# Altium integrated library Resistors.IntLib: 4954 symbols (part 12 of 32)
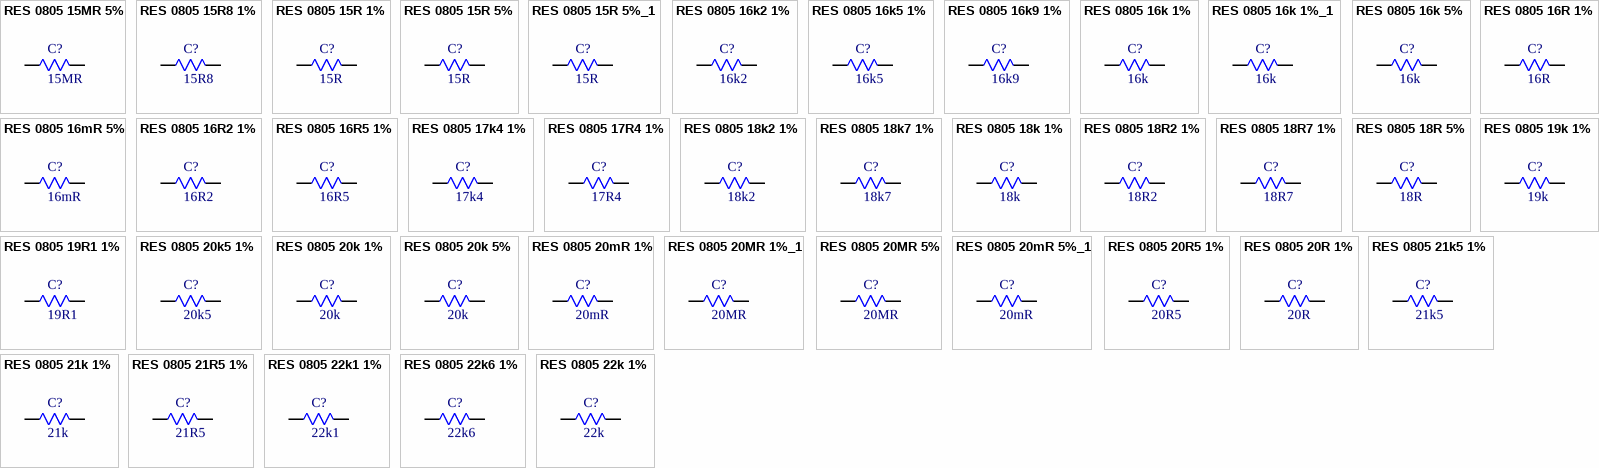
[diagram p134: symbols RES 0805 15MR 5% to RES 0805 22k 1%]

## RES 0805 15R8 1%
designator C?, comment 15R8
15.8R 1% 125mW 0805 Thick Film Resistor; Manufacturer: FOJAN; Manufacturer Part Number: FRC0805F15R8TS; Voltage Rating: 150V; Supplier: LCSC; Supplier Part Number: C3013212; Resistance: 15R8; Tolerance: 1%; Power: 125mW
footprint RES SMD 0805
pins: 1, 2

## RES 0805 15R 1%
designator C?, comment 15R
15R 1% 125mW 0805 Thick Film Resistor; Manufacturer: FOJAN; Manufacturer Part Number: FRC0805F15R0TS; Voltage Rating: 150V; Supplier: LCSC; Supplier Part Number: C2907229; Resistance: 15R; Tolerance: 1%; Power: 125mW
footprint RES SMD 0805
pins: 1, 2

## RES 0805 15R 5%
designator C?, comment 15R
15R 5% 125mW 0805 Thick Film Resistor; Manufacturer: FOJAN; Manufacturer Part Number: FRC0805J150TS; Voltage Rating: 150V; Supplier: LCSC; Supplier Part Number: C2930246; Resistance: 15R; Tolerance: 5%; Power: 125mW
footprint RES SMD 0805
pins: 1, 2

## RES 0805 15R 5%_1
designator C?, comment 15R
15R 5% 125mW 0805 Thick Film Resistor; Manufacturer: FOJAN; Manufacturer Part Number: FRD0805J150 TS; Voltage Rating: 150V; Supplier: LCSC; Supplier Part Number: C2934144; Resistance: 15R; Tolerance: 5%; Power: 125mW
footprint RES SMD 0805
pins: 1, 2

## RES 0805 16k2 1%
designator C?, comment 16k2
16.2kR 1% 125mW 0805 Thick Film Resistor; Manufacturer: FOJAN; Manufacturer Part Number: FRC0805F1622TS; Voltage Rating: 150V; Supplier: LCSC; Supplier Part Number: C2933332; Resistance: 16k2; Tolerance: 1%; Power: 125mW
footprint RES SMD 0805
pins: 1, 2

## RES 0805 16k5 1%
designator C?, comment 16k5
16.5kR 1% 125mW 0805 Thick Film Resistor; Manufacturer: FOJAN; Manufacturer Part Number: FRC0805F1652TS; Voltage Rating: 150V; Supplier: LCSC; Supplier Part Number: C2930171; Resistance: 16k5; Tolerance: 1%; Power: 125mW
footprint RES SMD 0805
pins: 1, 2

## RES 0805 16k9 1%
designator C?, comment 16k9
16.9kR 1% 125mW 0805 Thick Film Resistor; Manufacturer: FOJAN; Manufacturer Part Number: FRC0805F1692TS; Voltage Rating: 150V; Supplier: LCSC; Supplier Part Number: C2933336; Resistance: 16k9; Tolerance: 1%; Power: 125mW
footprint RES SMD 0805
pins: 1, 2

## RES 0805 16k 1%
designator C?, comment 16k
16kR 1% 125mW 0805 Thick Film Resistor; Manufacturer: FOJAN; Manufacturer Part Number: FRC0805F1602TS; Voltage Rating: 150V; Supplier: LCSC; Supplier Part Number: C2933329; Resistance: 16k; Tolerance: 1%; Power: 125mW
footprint RES SMD 0805
pins: 1, 2

## RES 0805 16k 1%_1
designator C?, comment 16k
125mW 16kR 150V Thick Film Resistor 100ppm/â„ƒ 1% 0805 Chip Resistor - Surface Mount RoHS; Manufacturer: FOJAN; Manufacturer Part Number: FRQ0805F1602TS; Supplier: LCSC; Supplier Part Number: C49196694; Resistance: 16k; Tolerance: 1%; Voltage Rating: 150V; Power: 125mW
footprint RES SMD 0805
pins: 1, 2

## RES 0805 16k 5%
designator C?, comment 16k
16kR 5% 125mW 0805 Thick Film Resistor; Manufacturer: FOJAN; Manufacturer Part Number: FRC0805J163TS; Voltage Rating: 150V; Supplier: LCSC; Supplier Part Number: C2930248; Resistance: 16k; Tolerance: 5%; Power: 125mW
footprint RES SMD 0805
pins: 1, 2

## RES 0805 16mR 5%
designator C?, comment 16mR
125mW 16mR Thick Film Resistor 5% 0805 Chip Resistor - Surface Mount RoHS; Manufacturer: FOJAN; Manufacturer Part Number: FRL0805JR016TS; Supplier: LCSC; Supplier Part Number: C7467497; Resistance: 16mR; Tolerance: 5%; Power: 125mW
footprint RES SMD 0805
pins: 1, 2

## RES 0805 16R2 1%
designator C?, comment 16R2
16.2R 1% 125mW 0805 Thick Film Resistor; Manufacturer: FOJAN; Manufacturer Part Number: FRC0805F16R2TS; Voltage Rating: 150V; Supplier: LCSC; Supplier Part Number: C2974034; Resistance: 16R2; Tolerance: 1%; Power: 125mW
footprint RES SMD 0805
pins: 1, 2

## RES 0805 16R5 1%
designator C?, comment 16R5
16.5R 1% 125mW 0805 Thick Film Resistor; Manufacturer: FOJAN; Manufacturer Part Number: FRC0805F16R5TS; Voltage Rating: 150V; Supplier: LCSC; Supplier Part Number: C2933339; Resistance: 16R5; Tolerance: 1%; Power: 125mW
footprint RES SMD 0805
pins: 1, 2

## RES 0805 16R 1%
designator C?, comment 16R
16R 1% 125mW 0805 Thick Film Resistor; Manufacturer: FOJAN; Manufacturer Part Number: FRC0805F16R0TS; Voltage Rating: 150V; Supplier: LCSC; Supplier Part Number: C2930172; Resistance: 16R; Tolerance: 1%; Power: 125mW
footprint RES SMD 0805
pins: 1, 2

## RES 0805 17k4 1%
designator C?, comment 17k4
17.4kR 1% 125mW 0805 Thick Film Resistor; Manufacturer: FOJAN; Manufacturer Part Number: FRC0805F1742TS; Voltage Rating: 150V; Supplier: LCSC; Supplier Part Number: C2930173; Resistance: 17k4; Tolerance: 1%; Power: 125mW
footprint RES SMD 0805
pins: 1, 2

## RES 0805 17R4 1%
designator C?, comment 17R4
17.4R 1% 125mW 0805 Thick Film Resistor; Manufacturer: FOJAN; Manufacturer Part Number: FRC0805F17R4TS; Voltage Rating: 150V; Supplier: LCSC; Supplier Part Number: C2933343; Resistance: 17R4; Tolerance: 1%; Power: 125mW
footprint RES SMD 0805
pins: 1, 2

## RES 0805 18k2 1%
designator C?, comment 18k2
18.2kR 1% 125mW 0805 Thick Film Resistor; Manufacturer: FOJAN; Manufacturer Part Number: FRC0805F1822TS; Voltage Rating: 150V; Supplier: LCSC; Supplier Part Number: C2933346; Resistance: 18k2; Tolerance: 1%; Power: 125mW
footprint RES SMD 0805
pins: 1, 2

## RES 0805 18k7 1%
designator C?, comment 18k7
18.7kR 1% 125mW 0805 Thick Film Resistor; Manufacturer: FOJAN; Manufacturer Part Number: FRC0805F1872TS; Voltage Rating: 150V; Supplier: LCSC; Supplier Part Number: C2933348; Resistance: 18k7; Tolerance: 1%; Power: 125mW
footprint RES SMD 0805
pins: 1, 2

## RES 0805 18k 1%
designator C?, comment 18k
18kR 1% 125mW 0805 Thick Film Resistor; Manufacturer: FOJAN; Manufacturer Part Number: FRC0805F1802TS; Voltage Rating: 150V; Supplier: LCSC; Supplier Part Number: C2907231; Resistance: 18k; Tolerance: 1%; Power: 125mW
footprint RES SMD 0805
pins: 1, 2

## RES 0805 18R2 1%
designator C?, comment 18R2
18.2R 1% 125mW 0805 Thick Film Resistor; Manufacturer: FOJAN; Manufacturer Part Number: FRC0805F18R2TS; Voltage Rating: 150V; Supplier: LCSC; Supplier Part Number: C2960806; Resistance: 18R2; Tolerance: 1%; Power: 125mW
footprint RES SMD 0805
pins: 1, 2

## RES 0805 18R7 1%
designator C?, comment 18R7
18.7R 1% 125mW 0805 Thick Film Resistor; Manufacturer: FOJAN; Manufacturer Part Number: FRC0805F18R7TS; Voltage Rating: 150V; Supplier: LCSC; Supplier Part Number: C2933349; Resistance: 18R7; Tolerance: 1%; Power: 125mW
footprint RES SMD 0805
pins: 1, 2

## RES 0805 18R 5%
designator C?, comment 18R
18R 5% 125mW 0805 Thick Film Resistor; Manufacturer: FOJAN; Manufacturer Part Number: FRC0805J180TS; Voltage Rating: 150V; Supplier: LCSC; Supplier Part Number: C2930252; Resistance: 18R; Tolerance: 5%; Power: 125mW
footprint RES SMD 0805
pins: 1, 2

## RES 0805 19k 1%
designator C?, comment 19k
19kR 1% 125mW 0805 Thick Film Resistor; Manufacturer: FOJAN; Manufacturer Part Number: FRC0805F1902TS; Voltage Rating: 150V; Supplier: LCSC; Supplier Part Number: C2930177; Resistance: 19k; Tolerance: 1%; Power: 125mW
footprint RES SMD 0805
pins: 1, 2

## RES 0805 19R1 1%
designator C?, comment 19R1
19.1R 1% 125mW 0805 Thick Film Resistor; Manufacturer: FOJAN; Manufacturer Part Number: FRC0805F19R1TS; Voltage Rating: 150V; Supplier: LCSC; Supplier Part Number: C2933353; Resistance: 19R1; Tolerance: 1%; Power: 125mW
footprint RES SMD 0805
pins: 1, 2

## RES 0805 20k5 1%
designator C?, comment 20k5
20.5kR 1% 125mW 0805 Thick Film Resistor; Manufacturer: FOJAN; Manufacturer Part Number: FRC0805F2052TS; Voltage Rating: 150V; Supplier: LCSC; Supplier Part Number: C2933365; Resistance: 20k5; Tolerance: 1%; Power: 125mW
footprint RES SMD 0805
pins: 1, 2

## RES 0805 20k 1%
designator C?, comment 20k
20kR 1% 125mW 0805 Thick Film Resistor; Manufacturer: FOJAN; Manufacturer Part Number: FRC0805F2002TS; Voltage Rating: 150V; Supplier: LCSC; Supplier Part Number: C2907240; Resistance: 20k; Tolerance: 1%; Power: 125mW
footprint RES SMD 0805
pins: 1, 2

## RES 0805 20k 5%
designator C?, comment 20k
20kR 5% 125mW 0805 Thick Film Resistor; Manufacturer: FOJAN; Manufacturer Part Number: FRC0805J203 TS; Voltage Rating: 150V; Supplier: LCSC; Supplier Part Number: C2907307; Resistance: 20k; Tolerance: 5%; Power: 125mW
footprint RES SMD 0805
pins: 1, 2

## RES 0805 20mR 1%
designator C?, comment 20mR
125mW 20mR Thick Film Resistor 1200ppm/â„ƒ 1% 0805 Chip Resistor - Surface Mount RoHS; Manufacturer: FOJAN; Manufacturer Part Number: FRL0805FR020TS; Supplier: LCSC; Supplier Part Number: C7467301; Resistance: 20mR; Tolerance: 1%; Power: 125mW
footprint RES SMD 0805
pins: 1, 2

## RES 0805 20MR 1%_1
designator C?, comment 20MR
20MR 1% 125mW 0805 Thick Film Resistor; Manufacturer: FOJAN; Manufacturer Part Number: FRG0805F2005TS; Voltage Rating: 150V; Supplier: LCSC; Supplier Part Number: C3013337; Resistance: 20MR; Tolerance: 1%; Power: 125mW
footprint RES SMD 0805
pins: 1, 2

## RES 0805 20MR 5%
designator C?, comment 20MR
20MR 5% 125mW 0805 Thick Film Resistor; Manufacturer: FOJAN; Manufacturer Part Number: FRG0805J206TS; Voltage Rating: 150V; Supplier: LCSC; Supplier Part Number: C3000547; Resistance: 20MR; Tolerance: 5%; Power: 125mW
footprint RES SMD 0805
pins: 1, 2

## RES 0805 20mR 5%_1
designator C?, comment 20mR
125mW 20mR Thick Film Resistor 1200ppm/â„ƒ 5% 0805 Chip Resistor - Surface Mount RoHS; Manufacturer: FOJAN; Manufacturer Part Number: FRL0805JR020TS; Supplier: LCSC; Supplier Part Number: C7467520; Resistance: 20mR; Tolerance: 5%; Power: 125mW
footprint RES SMD 0805
pins: 1, 2

## RES 0805 20R5 1%
designator C?, comment 20R5
20.5R 1% 125mW 0805 Thick Film Resistor; Manufacturer: FOJAN; Manufacturer Part Number: FRC0805F20R5TS; Voltage Rating: 150V; Supplier: LCSC; Supplier Part Number: C3013215; Resistance: 20R5; Tolerance: 1%; Power: 125mW
footprint RES SMD 0805
pins: 1, 2

## RES 0805 20R 1%
designator C?, comment 20R
20R 1% 125mW 0805 Thick Film Resistor; Manufacturer: FOJAN; Manufacturer Part Number: FRC0805F20R0TS; Voltage Rating: 150V; Supplier: LCSC; Supplier Part Number: C2907241; Resistance: 20R; Tolerance: 1%; Power: 125mW
footprint RES SMD 0805
pins: 1, 2

## RES 0805 21k5 1%
designator C?, comment 21k5
21.5kR 1% 125mW 0805 Thick Film Resistor; Manufacturer: FOJAN; Manufacturer Part Number: FRC0805F2152TS; Voltage Rating: 150V; Supplier: LCSC; Supplier Part Number: C2930181; Resistance: 21k5; Tolerance: 1%; Power: 125mW
footprint RES SMD 0805
pins: 1, 2

## RES 0805 21k 1%
designator C?, comment 21k
21kR 1% 125mW 0805 Thick Film Resistor; Manufacturer: FOJAN; Manufacturer Part Number: FRC0805F2102TS; Voltage Rating: 150V; Supplier: LCSC; Supplier Part Number: C2933366; Resistance: 21k; Tolerance: 1%; Power: 125mW
footprint RES SMD 0805
pins: 1, 2

## RES 0805 21R5 1%
designator C?, comment 21R5
21.5R 1% 125mW 0805 Thick Film Resistor; Manufacturer: FOJAN; Manufacturer Part Number: FRC0805F21R5TS; Voltage Rating: 150V; Supplier: LCSC; Supplier Part Number: C5713299; Resistance: 21R5; Tolerance: 1%; Power: 125mW
footprint RES SMD 0805
pins: 1, 2

## RES 0805 22k1 1%
designator C?, comment 22k1
22.1kR 1% 125mW 0805 Thick Film Resistor; Manufacturer: FOJAN; Manufacturer Part Number: FRC0805F2212TS; Voltage Rating: 150V; Supplier: LCSC; Supplier Part Number: C2930182; Resistance: 22k1; Tolerance: 1%; Power: 125mW
footprint RES SMD 0805
pins: 1, 2

## RES 0805 22k6 1%
designator C?, comment 22k6
22.6kR 1% 125mW 0805 Thick Film Resistor; Manufacturer: FOJAN; Manufacturer Part Number: FRC0805F2262TS; Voltage Rating: 150V; Supplier: LCSC; Supplier Part Number: C2933371; Resistance: 22k6; Tolerance: 1%; Power: 125mW
footprint RES SMD 0805
pins: 1, 2

## RES 0805 22k 1%
designator C?, comment 22k
22kR 1% 125mW 0805 Thick Film Resistor; Manufacturer: FOJAN; Manufacturer Part Number: FRC0805F2202TS; Voltage Rating: 150V; Supplier: LCSC; Supplier Part Number: C2907243; Resistance: 22k; Tolerance: 1%; Power: 125mW
footprint RES SMD 0805
pins: 1, 2

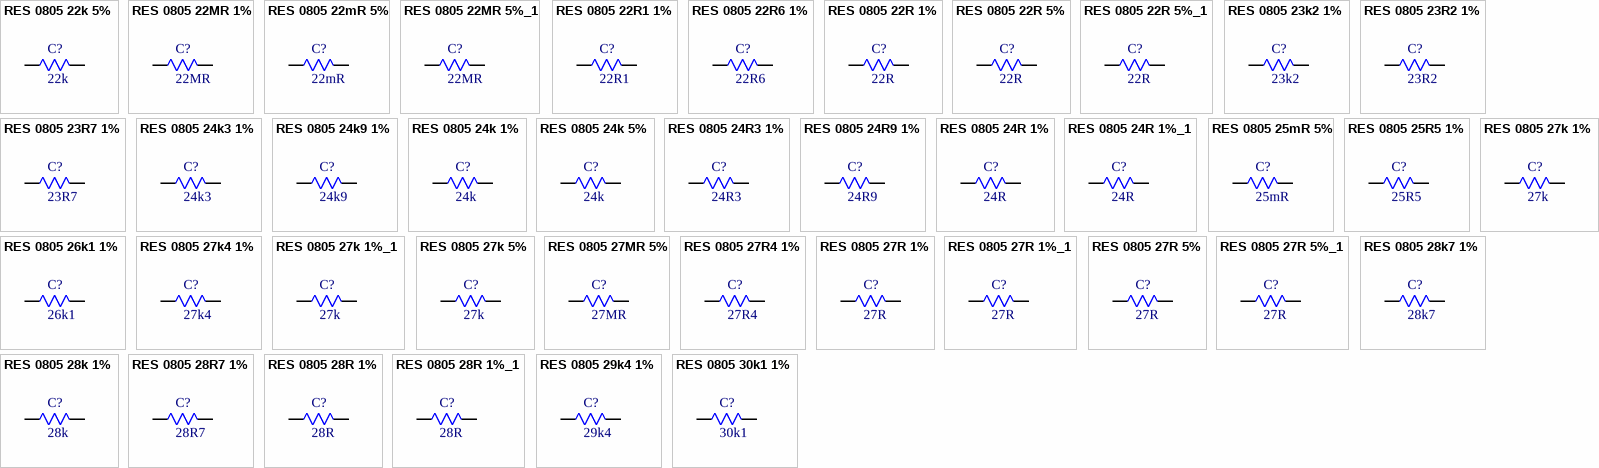
[diagram p45: symbols RES 0805 22k 5% to RES 0805 30k1 1%]

## RES 0805 22k 5%
designator C?, comment 22k
22kR 5% 125mW 0805 Thick Film Resistor; Manufacturer: FOJAN; Manufacturer Part Number: FRC0805J223 TS; Voltage Rating: 150V; Supplier: LCSC; Supplier Part Number: C2907309; Resistance: 22k; Tolerance: 5%; Power: 125mW
footprint RES SMD 0805
pins: 1, 2

## RES 0805 22MR 1%
designator C?, comment 22MR
22MR 1% 125mW 0805 Thick Film Resistor; Manufacturer: FOJAN; Manufacturer Part Number: FRG0805F2205TS; Voltage Rating: 150V; Supplier: LCSC; Supplier Part Number: C3013338; Resistance: 22MR; Tolerance: 1%; Power: 125mW
footprint RES SMD 0805
pins: 1, 2

## RES 0805 22mR 5%
designator C?, comment 22mR
125mW 22mR Thick Film Resistor 1200ppm/â„ƒ 5% 0805 Chip Resistor - Surface Mount RoHS; Manufacturer: FOJAN; Manufacturer Part Number: FRL0805JR022TS; Supplier: LCSC; Supplier Part Number: C7467546; Resistance: 22mR; Tolerance: 5%; Power: 125mW
footprint RES SMD 0805
pins: 1, 2

## RES 0805 22MR 5%_1
designator C?, comment 22MR
22MR 5% 125mW 0805 Thick Film Resistor; Manufacturer: FOJAN; Manufacturer Part Number: FRG0805J226TS; Voltage Rating: 150V; Supplier: LCSC; Supplier Part Number: C3000557; Resistance: 22MR; Tolerance: 5%; Power: 125mW
footprint RES SMD 0805
pins: 1, 2

## RES 0805 22R1 1%
designator C?, comment 22R1
22.1R 1% 125mW 0805 Thick Film Resistor; Manufacturer: FOJAN; Manufacturer Part Number: FRC0805F22R1TS; Voltage Rating: 150V; Supplier: LCSC; Supplier Part Number: C2933372; Resistance: 22R1; Tolerance: 1%; Power: 125mW
footprint RES SMD 0805
pins: 1, 2

## RES 0805 22R6 1%
designator C?, comment 22R6
22.6R 1% 125mW 0805 Thick Film Resistor; Manufacturer: FOJAN; Manufacturer Part Number: FRC0805F22R6TS; Voltage Rating: 150V; Supplier: LCSC; Supplier Part Number: C2960737; Resistance: 22R6; Tolerance: 1%; Power: 125mW
footprint RES SMD 0805
pins: 1, 2

## RES 0805 22R 1%
designator C?, comment 22R
22R 1% 125mW 0805 Thick Film Resistor; Manufacturer: FOJAN; Manufacturer Part Number: FRC0805F22R0TS; Voltage Rating: 150V; Supplier: LCSC; Supplier Part Number: C2907244; Resistance: 22R; Tolerance: 1%; Power: 125mW
footprint RES SMD 0805
pins: 1, 2

## RES 0805 22R 5%
designator C?, comment 22R
22R 5% 125mW 0805 Thick Film Resistor; Manufacturer: FOJAN; Manufacturer Part Number: FRC0805J220 TS; Voltage Rating: 150V; Supplier: LCSC; Supplier Part Number: C2907310; Resistance: 22R; Tolerance: 5%; Power: 125mW
footprint RES SMD 0805
pins: 1, 2

## RES 0805 22R 5%_1
designator C?, comment 22R
125mW 22R 150V Thick Film Resistor 100ppm/â„ƒ 5% 0805 Chip Resistor - Surface Mount RoHS; Manufacturer: FOJAN; Manufacturer Part Number: FRQ0805J220 TS; Supplier: LCSC; Supplier Part Number: C18222261; Resistance: 22R; Tolerance: 5%; Voltage Rating: 150V; Power: 125mW
footprint RES SMD 0805
pins: 1, 2

## RES 0805 23k2 1%
designator C?, comment 23k2
23.2kR 1% 125mW 0805 Thick Film Resistor; Manufacturer: FOJAN; Manufacturer Part Number: FRC0805F2322TS; Voltage Rating: 150V; Supplier: LCSC; Supplier Part Number: C2930419; Resistance: 23k2; Tolerance: 1%; Power: 125mW
footprint RES SMD 0805
pins: 1, 2

## RES 0805 23R2 1%
designator C?, comment 23R2
23.2R 1% 125mW 0805 Thick Film Resistor; Manufacturer: FOJAN; Manufacturer Part Number: FRC0805F23R2TS; Voltage Rating: 150V; Supplier: LCSC; Supplier Part Number: C2930183; Resistance: 23R2; Tolerance: 1%; Power: 125mW
footprint RES SMD 0805
pins: 1, 2

## RES 0805 23R7 1%
designator C?, comment 23R7
23.7R 1% 125mW 0805 Thick Film Resistor; Manufacturer: FOJAN; Manufacturer Part Number: FRC0805F23R7TS; Voltage Rating: 150V; Supplier: LCSC; Supplier Part Number: C2933375; Resistance: 23R7; Tolerance: 1%; Power: 125mW
footprint RES SMD 0805
pins: 1, 2

## RES 0805 24k3 1%
designator C?, comment 24k3
24.3kR 1% 125mW 0805 Thick Film Resistor; Manufacturer: FOJAN; Manufacturer Part Number: FRC0805F2432TS; Voltage Rating: 150V; Supplier: LCSC; Supplier Part Number: C2933378; Resistance: 24k3; Tolerance: 1%; Power: 125mW
footprint RES SMD 0805
pins: 1, 2

## RES 0805 24k9 1%
designator C?, comment 24k9
24.9kR 1% 125mW 0805 Thick Film Resistor; Manufacturer: FOJAN; Manufacturer Part Number: FRC0805F2492TS; Voltage Rating: 150V; Supplier: LCSC; Supplier Part Number: C2930185; Resistance: 24k9; Tolerance: 1%; Power: 125mW
footprint RES SMD 0805
pins: 1, 2

## RES 0805 24k 1%
designator C?, comment 24k
24kR 1% 125mW 0805 Thick Film Resistor; Manufacturer: FOJAN; Manufacturer Part Number: FRC0805F2402TS; Voltage Rating: 150V; Supplier: LCSC; Supplier Part Number: C2907246; Resistance: 24k; Tolerance: 1%; Power: 125mW
footprint RES SMD 0805
pins: 1, 2

## RES 0805 24k 5%
designator C?, comment 24k
24kR 5% 125mW 0805 Thick Film Resistor; Manufacturer: FOJAN; Manufacturer Part Number: FRC0805J243 TS; Voltage Rating: 150V; Supplier: LCSC; Supplier Part Number: C2907311; Resistance: 24k; Tolerance: 5%; Power: 125mW
footprint RES SMD 0805
pins: 1, 2

## RES 0805 24R3 1%
designator C?, comment 24R3
24.3R 1% 125mW 0805 Thick Film Resistor; Manufacturer: FOJAN; Manufacturer Part Number: FRC0805F24R3TS; Voltage Rating: 150V; Supplier: LCSC; Supplier Part Number: C2960738; Resistance: 24R3; Tolerance: 1%; Power: 125mW
footprint RES SMD 0805
pins: 1, 2

## RES 0805 24R9 1%
designator C?, comment 24R9
24.9R 1% 125mW 0805 Thick Film Resistor; Manufacturer: FOJAN; Manufacturer Part Number: FRC0805F24R9TS; Voltage Rating: 150V; Supplier: LCSC; Supplier Part Number: C2933381; Resistance: 24R9; Tolerance: 1%; Power: 125mW
footprint RES SMD 0805
pins: 1, 2

## RES 0805 24R 1%
designator C?, comment 24R
24R 1% 125mW 0805 Thick Film Resistor; Manufacturer: FOJAN; Manufacturer Part Number: FRC0805F24R0TS; Voltage Rating: 150V; Supplier: LCSC; Supplier Part Number: C2933380; Resistance: 24R; Tolerance: 1%; Power: 125mW
footprint RES SMD 0805
pins: 1, 2

## RES 0805 24R 1%_1
designator C?, comment 24R
125mW 24R 150V Thick Film Resistor 1% 100ppm/â„ƒ 0805 Chip Resistor - Surface Mount RoHS; Manufacturer: FOJAN; Manufacturer Part Number: FRQ0805F24R0TS; Supplier: LCSC; Supplier Part Number: C7468666; Resistance: 24R; Tolerance: 1%; Voltage Rating: 150V; Power: 125mW
footprint RES SMD 0805
pins: 1, 2

## RES 0805 25mR 5%
designator C?, comment 25mR
125mW 25mR Thick Film Resistor 1200ppm/â„ƒ 5% 0805 Chip Resistor - Surface Mount RoHS; Manufacturer: FOJAN; Manufacturer Part Number: FRL0805JR025TS; Supplier: LCSC; Supplier Part Number: C7467511; Resistance: 25mR; Tolerance: 5%; Power: 125mW
footprint RES SMD 0805
pins: 1, 2

## RES 0805 25R5 1%
designator C?, comment 25R5
25.5R 1% 125mW 0805 Thick Film Resistor; Manufacturer: FOJAN; Manufacturer Part Number: FRC0805F25R5TS; Voltage Rating: 150V; Supplier: LCSC; Supplier Part Number: C2933385; Resistance: 25R5; Tolerance: 1%; Power: 125mW
footprint RES SMD 0805
pins: 1, 2

## RES 0805 26k1 1%
designator C?, comment 26k1
26.1kR 1% 125mW 0805 Thick Film Resistor; Manufacturer: FOJAN; Manufacturer Part Number: FRC0805F2612TS; Voltage Rating: 150V; Supplier: LCSC; Supplier Part Number: C2933386; Resistance: 26k1; Tolerance: 1%; Power: 125mW
footprint RES SMD 0805
pins: 1, 2

## RES 0805 27k4 1%
designator C?, comment 27k4
27.4kR 1% 125mW 0805 Thick Film Resistor; Manufacturer: FOJAN; Manufacturer Part Number: FRC0805F2742TS; Voltage Rating: 150V; Supplier: LCSC; Supplier Part Number: C2930188; Resistance: 27k4; Tolerance: 1%; Power: 125mW
footprint RES SMD 0805
pins: 1, 2

## RES 0805 27k 1%
designator C?, comment 27k
27kR 1% 125mW 0805 Thick Film Resistor; Manufacturer: FOJAN; Manufacturer Part Number: FRC0805F2702TS; Voltage Rating: 150V; Supplier: LCSC; Supplier Part Number: C2907247; Resistance: 27k; Tolerance: 1%; Power: 125mW
footprint RES SMD 0805
pins: 1, 2

## RES 0805 27k 1%_1
designator C?, comment 27k
125mW 27kR Thick Film Resistor 1% 100ppm/â„ƒ 0805 Chip Resistor - Surface Mount RoHS; Manufacturer: FOJAN; Manufacturer Part Number: FRQ0805F2702TS; Supplier: LCSC; Supplier Part Number: C7468569; Resistance: 27k; Tolerance: 1%; Power: 125mW
footprint RES SMD 0805
pins: 1, 2

## RES 0805 27k 5%
designator C?, comment 27k
27kR 5% 125mW 0805 Thick Film Resistor; Manufacturer: FOJAN; Manufacturer Part Number: FRC0805J273TS; Voltage Rating: 150V; Supplier: LCSC; Supplier Part Number: C2930263; Resistance: 27k; Tolerance: 5%; Power: 125mW
footprint RES SMD 0805
pins: 1, 2

## RES 0805 27MR 5%
designator C?, comment 27MR
125mW 27MR Thick Film Resistor 5% 200ppm/â„ƒ 0805 Chip Resistor - Surface Mount RoHS; Manufacturer: FOJAN; Manufacturer Part Number: FRG0805J276 TS; Supplier: LCSC; Supplier Part Number: C42372202; Resistance: 27MR; Tolerance: 5%; Power: 125mW
footprint RES SMD 0805
pins: 1, 2

## RES 0805 27R4 1%
designator C?, comment 27R4
27.4R 1% 125mW 0805 Thick Film Resistor; Manufacturer: FOJAN; Manufacturer Part Number: FRC0805F27R4TS; Voltage Rating: 150V; Supplier: LCSC; Supplier Part Number: C5713302; Resistance: 27R4; Tolerance: 1%; Power: 125mW
footprint RES SMD 0805
pins: 1, 2

## RES 0805 27R 1%
designator C?, comment 27R
27R 1% 125mW 0805 Thick Film Resistor; Manufacturer: FOJAN; Manufacturer Part Number: FRC0805F27R0TS; Voltage Rating: 150V; Supplier: LCSC; Supplier Part Number: C2933393; Resistance: 27R; Tolerance: 1%; Power: 125mW
footprint RES SMD 0805
pins: 1, 2

## RES 0805 27R 1%_1
designator C?, comment 27R
125mW 27R 150V Thick Film Resistor 1% 100ppm/â„ƒ 0805 Chip Resistor - Surface Mount RoHS; Manufacturer: FOJAN; Manufacturer Part Number: FRQ0805F27R0TS; Supplier: LCSC; Supplier Part Number: C7468662; Resistance: 27R; Tolerance: 1%; Voltage Rating: 150V; Power: 125mW
footprint RES SMD 0805
pins: 1, 2

## RES 0805 27R 5%
designator C?, comment 27R
27R 5% 125mW 0805 Thick Film Resistor; Manufacturer: FOJAN; Manufacturer Part Number: FRC0805J270 TS; Voltage Rating: 150V; Supplier: LCSC; Supplier Part Number: C2907314; Resistance: 27R; Tolerance: 5%; Power: 125mW
footprint RES SMD 0805
pins: 1, 2

## RES 0805 27R 5%_1
designator C?, comment 27R
27R 5% 125mW 0805 Thick Film Resistor; Manufacturer: FOJAN; Manufacturer Part Number: FRC0805J270TSD; Voltage Rating: 150V; Supplier: LCSC; Supplier Part Number: C2930264; Resistance: 27R; Tolerance: 5%; Power: 125mW
footprint RES SMD 0805
pins: 1, 2

## RES 0805 28k7 1%
designator C?, comment 28k7
28.7kR 1% 125mW 0805 Thick Film Resistor; Manufacturer: FOJAN; Manufacturer Part Number: FRC0805F2872TS; Voltage Rating: 150V; Supplier: LCSC; Supplier Part Number: C2933395; Resistance: 28k7; Tolerance: 1%; Power: 125mW
footprint RES SMD 0805
pins: 1, 2

## RES 0805 28k 1%
designator C?, comment 28k
28kR 1% 125mW 0805 Thick Film Resistor; Manufacturer: FOJAN; Manufacturer Part Number: FRC0805F2802TS; Voltage Rating: 150V; Supplier: LCSC; Supplier Part Number: C2930191; Resistance: 28k; Tolerance: 1%; Power: 125mW
footprint RES SMD 0805
pins: 1, 2

## RES 0805 28R7 1%
designator C?, comment 28R7
28.7R 1% 125mW 0805 Thick Film Resistor; Manufacturer: FOJAN; Manufacturer Part Number: FRC0805F28R7TS; Voltage Rating: 150V; Supplier: LCSC; Supplier Part Number: C2930190; Resistance: 28R7; Tolerance: 1%; Power: 125mW
footprint RES SMD 0805
pins: 1, 2

## RES 0805 28R 1%
designator C?, comment 28R
125mW 28R 150V Thick Film Resistor 100ppm/â„ƒ 1% 0805 Chip Resistor - Surface Mount RoHS; Manufacturer: FOJAN; Manufacturer Part Number: FRQ0805F28R0TS; Supplier: LCSC; Supplier Part Number: C49010142; Resistance: 28R; Tolerance: 1%; Voltage Rating: 150V; Power: 125mW
footprint RES SMD 0805
pins: 1, 2

## RES 0805 28R 1%_1
designator C?, comment 28R
28R 1% 125mW 0805 Thick Film Resistor; Manufacturer: FOJAN; Manufacturer Part Number: FRC0805F28R0TS; Voltage Rating: 150V; Supplier: LCSC; Supplier Part Number: C2960761; Resistance: 28R; Tolerance: 1%; Power: 125mW
footprint RES SMD 0805
pins: 1, 2

## RES 0805 29k4 1%
designator C?, comment 29k4
29.4kR 1% 125mW 0805 Thick Film Resistor; Manufacturer: FOJAN; Manufacturer Part Number: FRC0805F2942TS; Voltage Rating: 150V; Supplier: LCSC; Supplier Part Number: C5121537; Resistance: 29k4; Tolerance: 1%; Power: 125mW
footprint RES SMD 0805
pins: 1, 2

## RES 0805 30k1 1%
designator C?, comment 30k1
30.1kR 1% 125mW 0805 Thick Film Resistor; Manufacturer: FOJAN; Manufacturer Part Number: FRC0805F3012TS; Voltage Rating: 150V; Supplier: LCSC; Supplier Part Number: C2933410; Resistance: 30k1; Tolerance: 1%; Power: 125mW
footprint RES SMD 0805
pins: 1, 2

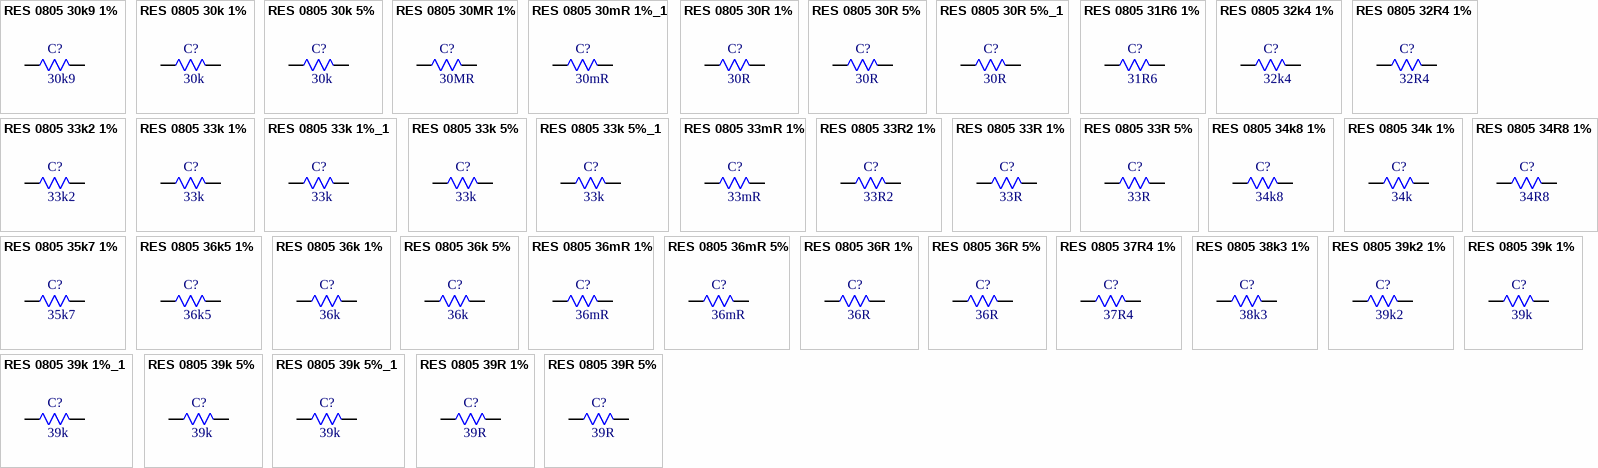
[diagram p46: symbols RES 0805 30k9 1% to RES 0805 39R 5%]

## RES 0805 30k9 1%
designator C?, comment 30k9
30.9kR 1% 125mW 0805 Thick Film Resistor; Manufacturer: FOJAN; Manufacturer Part Number: FRC0805F3092TS; Voltage Rating: 150V; Supplier: LCSC; Supplier Part Number: C2933411; Resistance: 30k9; Tolerance: 1%; Power: 125mW
footprint RES SMD 0805
pins: 1, 2

## RES 0805 30k 1%
designator C?, comment 30k
30kR 1% 125mW 0805 Thick Film Resistor; Manufacturer: FOJAN; Manufacturer Part Number: FRC0805F3002TS; Voltage Rating: 150V; Supplier: LCSC; Supplier Part Number: C2907255; Resistance: 30k; Tolerance: 1%; Power: 125mW
footprint RES SMD 0805
pins: 1, 2

## RES 0805 30k 5%
designator C?, comment 30k
30kR 5% 125mW 0805 Thick Film Resistor; Manufacturer: FOJAN; Manufacturer Part Number: FRC0805J303TS; Voltage Rating: 150V; Supplier: LCSC; Supplier Part Number: C2930272; Resistance: 30k; Tolerance: 5%; Power: 125mW
footprint RES SMD 0805
pins: 1, 2

## RES 0805 30MR 1%
designator C?, comment 30MR
30MR 1% 125mW 0805 Thick Film Resistor; Manufacturer: FOJAN; Manufacturer Part Number: FRG0805F3005TS; Voltage Rating: 150V; Supplier: LCSC; Supplier Part Number: C5126231; Resistance: 30MR; Tolerance: 1%; Power: 125mW
footprint RES SMD 0805
pins: 1, 2

## RES 0805 30mR 1%_1
designator C?, comment 30mR
30mR 125mW Thick Film Resistor 1200ppm/â„ƒ 1% 0805 Chip Resistor - Surface Mount RoHS; Manufacturer: FOJAN; Manufacturer Part Number: FRL0805FR030TS; Supplier: LCSC; Supplier Part Number: C7467397; Resistance: 30mR; Tolerance: 1%; Power: 125mW
footprint RES SMD 0805
pins: 1, 2

## RES 0805 30R 1%
designator C?, comment 30R
30R 1% 125mW 0805 Thick Film Resistor; Manufacturer: FOJAN; Manufacturer Part Number: FRC0805F30R0TS; Voltage Rating: 150V; Supplier: LCSC; Supplier Part Number: C2907256; Resistance: 30R; Tolerance: 1%; Power: 125mW
footprint RES SMD 0805
pins: 1, 2

## RES 0805 30R 5%
designator C?, comment 30R
30R 5% 125mW 0805 Thick Film Resistor; Manufacturer: FOJAN; Manufacturer Part Number: FRC0805J300 TS; Voltage Rating: 150V; Supplier: LCSC; Supplier Part Number: C2907319; Resistance: 30R; Tolerance: 5%; Power: 125mW
footprint RES SMD 0805
pins: 1, 2

## RES 0805 30R 5%_1
designator C?, comment 30R
30R 5% 125mW 0805 Thick Film Resistor; Manufacturer: FOJAN; Manufacturer Part Number: FRD0805J300 TS; Voltage Rating: 150V; Supplier: LCSC; Supplier Part Number: C2934161; Resistance: 30R; Tolerance: 5%; Power: 125mW
footprint RES SMD 0805
pins: 1, 2

## RES 0805 31R6 1%
designator C?, comment 31R6
31.6R 1% 125mW 0805 Thick Film Resistor; Manufacturer: FOJAN; Manufacturer Part Number: FRC0805F31R6TS; Voltage Rating: 150V; Supplier: LCSC; Supplier Part Number: C2960874; Resistance: 31R6; Tolerance: 1%; Power: 125mW
footprint RES SMD 0805
pins: 1, 2

## RES 0805 32k4 1%
designator C?, comment 32k4
32.4kR 1% 125mW 0805 Thick Film Resistor; Manufacturer: FOJAN; Manufacturer Part Number: FRC0805F3242TS; Voltage Rating: 150V; Supplier: LCSC; Supplier Part Number: C2930193; Resistance: 32k4; Tolerance: 1%; Power: 125mW
footprint RES SMD 0805
pins: 1, 2

## RES 0805 32R4 1%
designator C?, comment 32R4
32.4R 1% 125mW 0805 Thick Film Resistor; Manufacturer: FOJAN; Manufacturer Part Number: FRC0805F32R4TS; Voltage Rating: 150V; Supplier: LCSC; Supplier Part Number: C2960802; Resistance: 32R4; Tolerance: 1%; Power: 125mW
footprint RES SMD 0805
pins: 1, 2

## RES 0805 33k2 1%
designator C?, comment 33k2
33.2kR 1% 125mW 0805 Thick Film Resistor; Manufacturer: FOJAN; Manufacturer Part Number: FRC0805F3322TS; Voltage Rating: 150V; Supplier: LCSC; Supplier Part Number: C2933418; Resistance: 33k2; Tolerance: 1%; Power: 125mW
footprint RES SMD 0805
pins: 1, 2

## RES 0805 33k 1%
designator C?, comment 33k
33kR 1% 125mW 0805 Thick Film Resistor; Manufacturer: FOJAN; Manufacturer Part Number: FRC0805F3302TS; Voltage Rating: 150V; Supplier: LCSC; Supplier Part Number: C2933415; Resistance: 33k; Tolerance: 1%; Power: 125mW
footprint RES SMD 0805
pins: 1, 2

## RES 0805 33k 1%_1
designator C?, comment 33k
125mW 33kR 150V Thick Film Resistor 100ppm/â„ƒ 1% 0805 Chip Resistor - Surface Mount RoHS; Manufacturer: FOJAN; Manufacturer Part Number: FRR0805F3302TS; Supplier: LCSC; Supplier Part Number: C49196823; Resistance: 33k; Tolerance: 1%; Voltage Rating: 150V; Power: 125mW
footprint RES SMD 0805
pins: 1, 2

## RES 0805 33k 5%
designator C?, comment 33k
33kR 5% 125mW 0805 Thick Film Resistor; Manufacturer: FOJAN; Manufacturer Part Number: FRC0805J333TS; Voltage Rating: 150V; Supplier: LCSC; Supplier Part Number: C2930276; Resistance: 33k; Tolerance: 5%; Power: 125mW
footprint RES SMD 0805
pins: 1, 2

## RES 0805 33k 5%_1
designator C?, comment 33k
33kR 5% 125mW 0805 Thick Film Resistor AEC-Q200; Manufacturer: FOJAN; Manufacturer Part Number: FRQ0805J333 TS; Voltage Rating: 150V; Supplier: LCSC; Supplier Part Number: C5713453; Resistance: 33k; Tolerance: 5%; Power: 125mW
footprint RES SMD 0805
pins: 1, 2

## RES 0805 33mR 1%
designator C?, comment 33mR
125mW 33mR Thick Film Resistor 1200ppm/â„ƒ 1% 0805 Chip Resistor - Surface Mount RoHS; Manufacturer: FOJAN; Manufacturer Part Number: FRL0805FR033TS; Supplier: LCSC; Supplier Part Number: C7467305; Resistance: 33mR; Tolerance: 1%; Power: 125mW
footprint RES SMD 0805
pins: 1, 2

## RES 0805 33R2 1%
designator C?, comment 33R2
33.2R 1% 125mW 0805 Thick Film Resistor; Manufacturer: FOJAN; Manufacturer Part Number: FRC0805F33R2TS; Voltage Rating: 150V; Supplier: LCSC; Supplier Part Number: C2999473; Resistance: 33R2; Tolerance: 1%; Power: 125mW
footprint RES SMD 0805
pins: 1, 2

## RES 0805 33R 1%
designator C?, comment 33R
33R 1% 125mW 0805 Thick Film Resistor; Manufacturer: FOJAN; Manufacturer Part Number: FRC0805F33R0TS; Voltage Rating: 150V; Supplier: LCSC; Supplier Part Number: C2907258; Resistance: 33R; Tolerance: 1%; Power: 125mW
footprint RES SMD 0805
pins: 1, 2

## RES 0805 33R 5%
designator C?, comment 33R
33R 5% 125mW 0805 Thick Film Resistor; Manufacturer: FOJAN; Manufacturer Part Number: FRC0805J330 TS; Voltage Rating: 150V; Supplier: LCSC; Supplier Part Number: C2907322; Resistance: 33R; Tolerance: 5%; Power: 125mW
footprint RES SMD 0805
pins: 1, 2

## RES 0805 34k8 1%
designator C?, comment 34k8
34.8kR 1% 125mW 0805 Thick Film Resistor; Manufacturer: FOJAN; Manufacturer Part Number: FRC0805F3482TS; Voltage Rating: 150V; Supplier: LCSC; Supplier Part Number: C2933423; Resistance: 34k8; Tolerance: 1%; Power: 125mW
footprint RES SMD 0805
pins: 1, 2

## RES 0805 34k 1%
designator C?, comment 34k
34kR 1% 125mW 0805 Thick Film Resistor; Manufacturer: FOJAN; Manufacturer Part Number: FRC0805F3402TS; Voltage Rating: 150V; Supplier: LCSC; Supplier Part Number: C2933420; Resistance: 34k; Tolerance: 1%; Power: 125mW
footprint RES SMD 0805
pins: 1, 2

## RES 0805 34R8 1%
designator C?, comment 34R8
125mW 34.8R Thick Film Resistor 1% 100ppm/â„ƒ 0805 Chip Resistor - Surface Mount RoHS; Manufacturer: FOJAN; Manufacturer Part Number: FRC0805F34R8TS; Supplier: LCSC; Supplier Part Number: C7467327; Resistance: 34R8; Tolerance: 1%; Power: 125mW
footprint RES SMD 0805
pins: 1, 2

## RES 0805 35k7 1%
designator C?, comment 35k7
35.7kR 1% 125mW 0805 Thick Film Resistor; Manufacturer: FOJAN; Manufacturer Part Number: FRC0805F3572TS; Voltage Rating: 150V; Supplier: LCSC; Supplier Part Number: C2999474; Resistance: 35k7; Tolerance: 1%; Power: 125mW
footprint RES SMD 0805
pins: 1, 2

## RES 0805 36k5 1%
designator C?, comment 36k5
36.5kR 1% 125mW 0805 Thick Film Resistor; Manufacturer: FOJAN; Manufacturer Part Number: FRC0805F3652TS; Voltage Rating: 150V; Supplier: LCSC; Supplier Part Number: C2999585; Resistance: 36k5; Tolerance: 1%; Power: 125mW
footprint RES SMD 0805
pins: 1, 2

## RES 0805 36k 1%
designator C?, comment 36k
36kR 1% 125mW 0805 Thick Film Resistor; Manufacturer: FOJAN; Manufacturer Part Number: FRC0805F3602TS; Voltage Rating: 150V; Supplier: LCSC; Supplier Part Number: C2933426; Resistance: 36k; Tolerance: 1%; Power: 125mW
footprint RES SMD 0805
pins: 1, 2

## RES 0805 36k 5%
designator C?, comment 36k
36kR 5% 125mW 0805 Thick Film Resistor; Manufacturer: FOJAN; Manufacturer Part Number: FRC0805J363 TS; Voltage Rating: 150V; Supplier: LCSC; Supplier Part Number: C2907323; Resistance: 36k; Tolerance: 5%; Power: 125mW
footprint RES SMD 0805
pins: 1, 2

## RES 0805 36mR 1%
designator C?, comment 36mR
125mW 36mR Thick Film Resistor 1200ppm/â„ƒ 1% 0805 Chip Resistor - Surface Mount RoHS; Manufacturer: FOJAN; Manufacturer Part Number: FRL0805FR036TS; Supplier: LCSC; Supplier Part Number: C7467571; Resistance: 36mR; Tolerance: 1%; Power: 125mW
footprint RES SMD 0805
pins: 1, 2

## RES 0805 36mR 5%
designator C?, comment 36mR
125mW 36mR Thick Film Resistor 1200ppm/â„ƒ 5% 0805 Chip Resistor - Surface Mount RoHS; Manufacturer: FOJAN; Manufacturer Part Number: FRL0805JR036TS; Supplier: LCSC; Supplier Part Number: C7467607; Resistance: 36mR; Tolerance: 5%; Power: 125mW
footprint RES SMD 0805
pins: 1, 2

## RES 0805 36R 1%
designator C?, comment 36R
36R 1% 125mW 0805 Thick Film Resistor; Manufacturer: FOJAN; Manufacturer Part Number: FRC0805F36R0TS; Voltage Rating: 150V; Supplier: LCSC; Supplier Part Number: C2930159; Resistance: 36R; Tolerance: 1%; Power: 125mW
footprint RES SMD 0805
pins: 1, 2

## RES 0805 36R 5%
designator C?, comment 36R
36R 5% 125mW 0805 Thick Film Resistor; Manufacturer: FOJAN; Manufacturer Part Number: FRD0805J360 TS; Voltage Rating: 150V; Supplier: LCSC; Supplier Part Number: C5146241; Resistance: 36R; Tolerance: 5%; Power: 125mW
footprint RES SMD 0805
pins: 1, 2

## RES 0805 37R4 1%
designator C?, comment 37R4
37.4R 1% 125mW 0805 Thick Film Resistor; Manufacturer: FOJAN; Manufacturer Part Number: FRC0805F37R4TS; Voltage Rating: 150V; Supplier: LCSC; Supplier Part Number: C2930282; Resistance: 37R4; Tolerance: 1%; Power: 125mW
footprint RES SMD 0805
pins: 1, 2

## RES 0805 38k3 1%
designator C?, comment 38k3
38.3kR 1% 125mW 0805 Thick Film Resistor; Manufacturer: FOJAN; Manufacturer Part Number: FRC0805F3832TS; Voltage Rating: 150V; Supplier: LCSC; Supplier Part Number: C2933429; Resistance: 38k3; Tolerance: 1%; Power: 125mW
footprint RES SMD 0805
pins: 1, 2

## RES 0805 39k2 1%
designator C?, comment 39k2
39.2kR 1% 125mW 0805 Thick Film Resistor; Manufacturer: FOJAN; Manufacturer Part Number: FRC0805F3922TS; Voltage Rating: 150V; Supplier: LCSC; Supplier Part Number: C2999635; Resistance: 39k2; Tolerance: 1%; Power: 125mW
footprint RES SMD 0805
pins: 1, 2

## RES 0805 39k 1%
designator C?, comment 39k
39kR 1% 125mW 0805 Thick Film Resistor; Manufacturer: FOJAN; Manufacturer Part Number: FRC0805F3902TS; Voltage Rating: 150V; Supplier: LCSC; Supplier Part Number: C2907262; Resistance: 39k; Tolerance: 1%; Power: 125mW
footprint RES SMD 0805
pins: 1, 2

## RES 0805 39k 1%_1
designator C?, comment 39k
125mW 39kR Thick Film Resistor 1% 100ppm/â„ƒ 0805 Chip Resistor - Surface Mount RoHS; Manufacturer: FOJAN; Manufacturer Part Number: FRQ0805F3902TS; Supplier: LCSC; Supplier Part Number: C7468574; Resistance: 39k; Tolerance: 1%; Power: 125mW
footprint RES SMD 0805
pins: 1, 2

## RES 0805 39k 5%
designator C?, comment 39k
39kR 5% 125mW 0805 Thick Film Resistor; Manufacturer: FOJAN; Manufacturer Part Number: FRC0805J393 TS; Voltage Rating: 150V; Supplier: LCSC; Supplier Part Number: C2933549; Resistance: 39k; Tolerance: 5%; Power: 125mW
footprint RES SMD 0805
pins: 1, 2

## RES 0805 39k 5%_1
designator C?, comment 39k
39kR 5% 125mW 0805 Thick Film Resistor; Manufacturer: FOJAN; Manufacturer Part Number: FRD0805J393 TS; Voltage Rating: 150V; Supplier: LCSC; Supplier Part Number: C2934166; Resistance: 39k; Tolerance: 5%; Power: 125mW
footprint RES SMD 0805
pins: 1, 2

## RES 0805 39R 1%
designator C?, comment 39R
39R 1% 125mW 0805 Thick Film Resistor; Manufacturer: FOJAN; Manufacturer Part Number: FRC0805F39R0TS; Voltage Rating: 150V; Supplier: LCSC; Supplier Part Number: C2930194; Resistance: 39R; Tolerance: 1%; Power: 125mW
footprint RES SMD 0805
pins: 1, 2

## RES 0805 39R 5%
designator C?, comment 39R
39R 5% 125mW 0805 Thick Film Resistor; Manufacturer: FOJAN; Manufacturer Part Number: FRC0805J390 TS; Voltage Rating: 150V; Supplier: LCSC; Supplier Part Number: C2933547; Resistance: 39R; Tolerance: 5%; Power: 125mW
footprint RES SMD 0805
pins: 1, 2

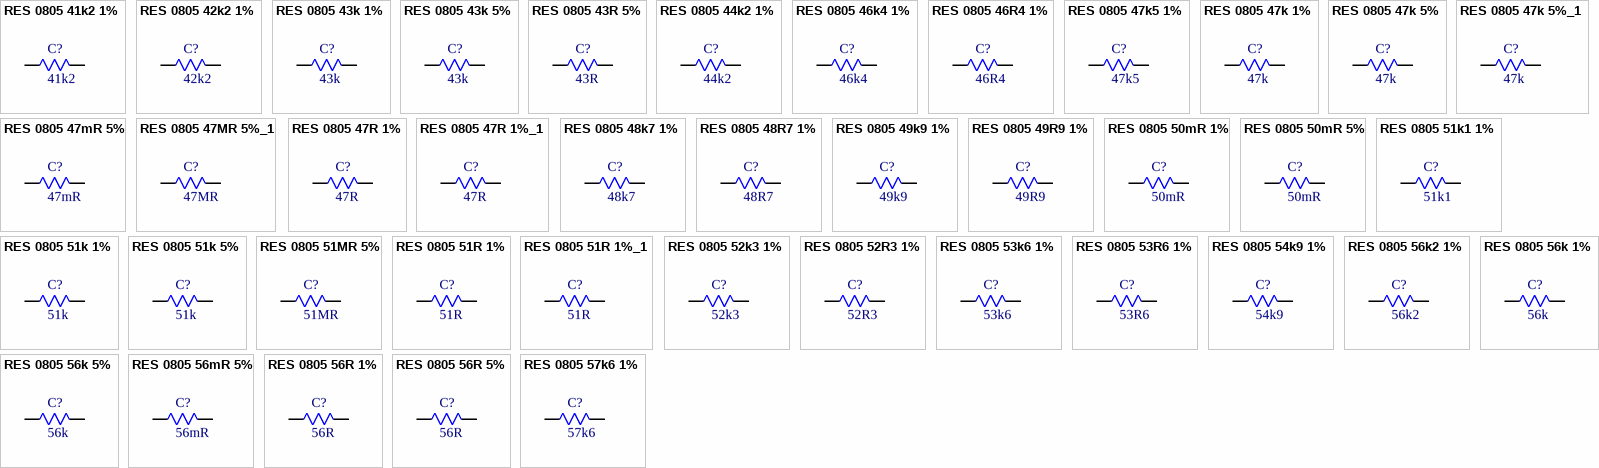
[diagram p47: symbols RES 0805 41k2 1% to RES 0805 57k6 1%]

## RES 0805 41k2 1%
designator C?, comment 41k2
41.2kR 1% 125mW 0805 Thick Film Resistor; Manufacturer: FOJAN; Manufacturer Part Number: FRC0805F4122TS; Voltage Rating: 150V; Supplier: LCSC; Supplier Part Number: C2933440; Resistance: 41k2; Tolerance: 1%; Power: 125mW
footprint RES SMD 0805
pins: 1, 2

## RES 0805 42k2 1%
designator C?, comment 42k2
42.2kR 1% 125mW 0805 Thick Film Resistor; Manufacturer: FOJAN; Manufacturer Part Number: FRC0805F4222TS; Voltage Rating: 150V; Supplier: LCSC; Supplier Part Number: C2999591; Resistance: 42k2; Tolerance: 1%; Power: 125mW
footprint RES SMD 0805
pins: 1, 2

## RES 0805 43k 1%
designator C?, comment 43k
43kR 1% 125mW 0805 Thick Film Resistor; Manufacturer: FOJAN; Manufacturer Part Number: FRC0805F4302TS; Voltage Rating: 150V; Supplier: LCSC; Supplier Part Number: C2907266; Resistance: 43k; Tolerance: 1%; Power: 125mW
footprint RES SMD 0805
pins: 1, 2

## RES 0805 43k 5%
designator C?, comment 43k
43kR 5% 125mW 0805 Thick Film Resistor; Manufacturer: FOJAN; Manufacturer Part Number: FRC0805J433TS; Voltage Rating: 150V; Supplier: LCSC; Supplier Part Number: C2930291; Resistance: 43k; Tolerance: 5%; Power: 125mW
footprint RES SMD 0805
pins: 1, 2

## RES 0805 43R 5%
designator C?, comment 43R
43R 5% 125mW 0805 Thick Film Resistor; Manufacturer: FOJAN; Manufacturer Part Number: FRD0805J430 TS; Voltage Rating: 150V; Supplier: LCSC; Supplier Part Number: C2934167; Resistance: 43R; Tolerance: 5%; Power: 125mW
footprint RES SMD 0805
pins: 1, 2

## RES 0805 44k2 1%
designator C?, comment 44k2
44.2kR 1% 125mW 0805 Thick Film Resistor; Manufacturer: FOJAN; Manufacturer Part Number: FRC0805F4422TS; Voltage Rating: 150V; Supplier: LCSC; Supplier Part Number: C2960780; Resistance: 44k2; Tolerance: 1%; Power: 125mW
footprint RES SMD 0805
pins: 1, 2

## RES 0805 46k4 1%
designator C?, comment 46k4
46.4kR 1% 125mW 0805 Thick Film Resistor; Manufacturer: FOJAN; Manufacturer Part Number: FRC0805F4642TS; Voltage Rating: 150V; Supplier: LCSC; Supplier Part Number: C3000732; Resistance: 46k4; Tolerance: 1%; Power: 125mW
footprint RES SMD 0805
pins: 1, 2

## RES 0805 46R4 1%
designator C?, comment 46R4
46.4R 1% 125mW 0805 Thick Film Resistor; Manufacturer: FOJAN; Manufacturer Part Number: FRC0805F46R4TS; Voltage Rating: 150V; Supplier: LCSC; Supplier Part Number: C3000733; Resistance: 46R4; Tolerance: 1%; Power: 125mW
footprint RES SMD 0805
pins: 1, 2

## RES 0805 47k5 1%
designator C?, comment 47k5
47.5kR 1% 125mW 0805 Thick Film Resistor; Manufacturer: FOJAN; Manufacturer Part Number: FRC0805F4752TS; Voltage Rating: 150V; Supplier: LCSC; Supplier Part Number: C2999454; Resistance: 47k5; Tolerance: 1%; Power: 125mW
footprint RES SMD 0805
pins: 1, 2

## RES 0805 47k 1%
designator C?, comment 47k
47kR 1% 125mW 0805 Thick Film Resistor; Manufacturer: FOJAN; Manufacturer Part Number: FRC0805F4702TS; Voltage Rating: 150V; Supplier: LCSC; Supplier Part Number: C2930202; Resistance: 47k; Tolerance: 1%; Power: 125mW
footprint RES SMD 0805
pins: 1, 2

## RES 0805 47k 5%
designator C?, comment 47k
47kR 5% 125mW 0805 Thick Film Resistor; Manufacturer: FOJAN; Manufacturer Part Number: FRC0805J473 TS; Voltage Rating: 150V; Supplier: LCSC; Supplier Part Number: C2907330; Resistance: 47k; Tolerance: 5%; Power: 125mW
footprint RES SMD 0805
pins: 1, 2

## RES 0805 47k 5%_1
designator C?, comment 47k
125mW 47kR 150V Thick Film Resistor 100ppm/â„ƒ 5% 0805 Chip Resistor - Surface Mount RoHS; Manufacturer: FOJAN; Manufacturer Part Number: FRQ0805J473 TS; Supplier: LCSC; Supplier Part Number: C18222271; Resistance: 47k; Tolerance: 5%; Voltage Rating: 150V; Power: 125mW
footprint RES SMD 0805
pins: 1, 2

## RES 0805 47mR 5%
designator C?, comment 47mR
125mW 47mR Thick Film Resistor 1200ppm/â„ƒ 5% 0805 Chip Resistor - Surface Mount RoHS; Manufacturer: FOJAN; Manufacturer Part Number: FRL0805JR047TS; Supplier: LCSC; Supplier Part Number: C7467539; Resistance: 47mR; Tolerance: 5%; Power: 125mW
footprint RES SMD 0805
pins: 1, 2

## RES 0805 47MR 5%_1
designator C?, comment 47MR
47MR 5% 125mW 0805 Thick Film Resistor; Manufacturer: FOJAN; Manufacturer Part Number: FRG0805J476 TS; Voltage Rating: 150V; Supplier: LCSC; Supplier Part Number: C3013339; Resistance: 47MR; Tolerance: 5%; Power: 125mW
footprint RES SMD 0805
pins: 1, 2

## RES 0805 47R 1%
designator C?, comment 47R
47R 1% 125mW 0805 Thick Film Resistor; Manufacturer: FOJAN; Manufacturer Part Number: FRC0805F47R0TS; Voltage Rating: 150V; Supplier: LCSC; Supplier Part Number: C2907268; Resistance: 47R; Tolerance: 1%; Power: 125mW
footprint RES SMD 0805
pins: 1, 2

## RES 0805 47R 1%_1
designator C?, comment 47R
125mW 47R 150V Thick Film Resistor 100ppm/â„ƒ 1% 0805 Chip Resistor - Surface Mount RoHS; Manufacturer: FOJAN; Manufacturer Part Number: FRQ0805F47R0TS; Supplier: LCSC; Supplier Part Number: C49196885; Resistance: 47R; Tolerance: 1%; Voltage Rating: 150V; Power: 125mW
footprint RES SMD 0805
pins: 1, 2

## RES 0805 48k7 1%
designator C?, comment 48k7
48.7kR 1% 125mW 0805 Thick Film Resistor; Manufacturer: FOJAN; Manufacturer Part Number: FRC0805F4872TS; Voltage Rating: 150V; Supplier: LCSC; Supplier Part Number: C2933452; Resistance: 48k7; Tolerance: 1%; Power: 125mW
footprint RES SMD 0805
pins: 1, 2

## RES 0805 48R7 1%
designator C?, comment 48R7
48.7R 1% 125mW 0805 Thick Film Resistor; Manufacturer: FOJAN; Manufacturer Part Number: FRC0805F48R7TS; Voltage Rating: 150V; Supplier: LCSC; Supplier Part Number: C2999486; Resistance: 48R7; Tolerance: 1%; Power: 125mW
footprint RES SMD 0805
pins: 1, 2

## RES 0805 49k9 1%
designator C?, comment 49k9
49.9kR 1% 125mW 0805 Thick Film Resistor; Manufacturer: FOJAN; Manufacturer Part Number: FRC0805F4992TS; Voltage Rating: 150V; Supplier: LCSC; Supplier Part Number: C2930203; Resistance: 49k9; Tolerance: 1%; Power: 125mW
footprint RES SMD 0805
pins: 1, 2

## RES 0805 49R9 1%
designator C?, comment 49R9
49.9R 1% 125mW 0805 Thick Film Resistor; Manufacturer: FOJAN; Manufacturer Part Number: FRC0805F49R9TS; Voltage Rating: 150V; Supplier: LCSC; Supplier Part Number: C2933455; Resistance: 49R9; Tolerance: 1%; Power: 125mW
footprint RES SMD 0805
pins: 1, 2

## RES 0805 50mR 1%
designator C?, comment 50mR
125mW 50mR Thick Film Resistor 1200ppm/â„ƒ 1% 0805 Chip Resistor - Surface Mount RoHS; Manufacturer: FOJAN; Manufacturer Part Number: FRL0805FR050TS; Supplier: LCSC; Supplier Part Number: C7467639; Resistance: 50mR; Tolerance: 1%; Power: 125mW
footprint RES SMD 0805
pins: 1, 2

## RES 0805 50mR 5%
designator C?, comment 50mR
50mR 5% 125mW 0805 Thick Film Resistor; Manufacturer: FOJAN; Manufacturer Part Number: FRL0805JR050TS; Voltage Rating: 300V; Supplier: LCSC; Supplier Part Number: C3000577; Resistance: 50mR; Tolerance: 5%; Power: 125mW
footprint RES SMD 0805
pins: 1, 2

## RES 0805 51k1 1%
designator C?, comment 51k1
51.1kR 1% 125mW 0805 Thick Film Resistor; Manufacturer: FOJAN; Manufacturer Part Number: FRC0805F5112TS; Voltage Rating: 150V; Supplier: LCSC; Supplier Part Number: C3013222; Resistance: 51k1; Tolerance: 1%; Power: 125mW
footprint RES SMD 0805
pins: 1, 2

## RES 0805 51k 1%
designator C?, comment 51k
51kR 1% 125mW 0805 Thick Film Resistor; Manufacturer: FOJAN; Manufacturer Part Number: FRC0805F5102TS; Voltage Rating: 150V; Supplier: LCSC; Supplier Part Number: C2933461; Resistance: 51k; Tolerance: 1%; Power: 125mW
footprint RES SMD 0805
pins: 1, 2

## RES 0805 51k 5%
designator C?, comment 51k
51kR 5% 125mW 0805 Thick Film Resistor; Manufacturer: FOJAN; Manufacturer Part Number: FRC0805J513TS; Voltage Rating: 150V; Supplier: LCSC; Supplier Part Number: C2930300; Resistance: 51k; Tolerance: 5%; Power: 125mW
footprint RES SMD 0805
pins: 1, 2

## RES 0805 51MR 5%
designator C?, comment 51MR
51MR 5% 125mW 0805 Thick Film Resistor; Manufacturer: FOJAN; Manufacturer Part Number: FRG0805J516 TS; Voltage Rating: 150V; Supplier: LCSC; Supplier Part Number: C5126217; Resistance: 51MR; Tolerance: 5%; Power: 125mW
footprint RES SMD 0805
pins: 1, 2

## RES 0805 51R 1%
designator C?, comment 51R
125mW 51R Thick Film Resistor 1% 100ppm/â„ƒ 0805 Chip Resistor - Surface Mount RoHS; Manufacturer: FOJAN; Manufacturer Part Number: FRQ0805F51R0TS; Supplier: LCSC; Supplier Part Number: C7468566; Resistance: 51R; Tolerance: 1%; Power: 125mW
footprint RES SMD 0805
pins: 1, 2

## RES 0805 51R 1%_1
designator C?, comment 51R
51R 1% 125mW 0805 Thick Film Resistor; Manufacturer: FOJAN; Manufacturer Part Number: FRC0805F51R0TS; Voltage Rating: 150V; Supplier: LCSC; Supplier Part Number: C2933463; Resistance: 51R; Tolerance: 1%; Power: 125mW
footprint RES SMD 0805
pins: 1, 2

## RES 0805 52k3 1%
designator C?, comment 52k3
52.3kR 1% 125mW 0805 Thick Film Resistor; Manufacturer: FOJAN; Manufacturer Part Number: FRC0805F5232TS; Voltage Rating: 150V; Supplier: LCSC; Supplier Part Number: C2933465; Resistance: 52k3; Tolerance: 1%; Power: 125mW
footprint RES SMD 0805
pins: 1, 2

## RES 0805 52R3 1%
designator C?, comment 52R3
52.3R 1% 125mW 0805 Thick Film Resistor; Manufacturer: FOJAN; Manufacturer Part Number: FRC0805F52R3TS; Voltage Rating: 150V; Supplier: LCSC; Supplier Part Number: C2960939; Resistance: 52R3; Tolerance: 1%; Power: 125mW
footprint RES SMD 0805
pins: 1, 2

## RES 0805 53k6 1%
designator C?, comment 53k6
53.6kR 1% 125mW 0805 Thick Film Resistor; Manufacturer: FOJAN; Manufacturer Part Number: FRC0805F5362TS; Voltage Rating: 150V; Supplier: LCSC; Supplier Part Number: C5153984; Resistance: 53k6; Tolerance: 1%; Power: 125mW
footprint RES SMD 0805
pins: 1, 2

## RES 0805 53R6 1%
designator C?, comment 53R6
53.6R 1% 125mW 0805 Thick Film Resistor; Manufacturer: FOJAN; Manufacturer Part Number: FRC0805F53R6TS; Voltage Rating: 150V; Supplier: LCSC; Supplier Part Number: C2960752; Resistance: 53R6; Tolerance: 1%; Power: 125mW
footprint RES SMD 0805
pins: 1, 2

## RES 0805 54k9 1%
designator C?, comment 54k9
54.9kR 1% 125mW 0805 Thick Film Resistor; Manufacturer: FOJAN; Manufacturer Part Number: FRC0805F5492TS; Voltage Rating: 150V; Supplier: LCSC; Supplier Part Number: C5204014; Resistance: 54k9; Tolerance: 1%; Power: 125mW
footprint RES SMD 0805
pins: 1, 2

## RES 0805 56k2 1%
designator C?, comment 56k2
56.2kR 1% 125mW 0805 Thick Film Resistor; Manufacturer: FOJAN; Manufacturer Part Number: FRC0805F5622TS; Voltage Rating: 150V; Supplier: LCSC; Supplier Part Number: C2933471; Resistance: 56k2; Tolerance: 1%; Power: 125mW
footprint RES SMD 0805
pins: 1, 2

## RES 0805 56k 1%
designator C?, comment 56k
125mW 56kR 150V Thick Film Resistor 100ppm/â„ƒ 1% 0805 Chip Resistor - Surface Mount RoHS; Manufacturer: FOJAN; Manufacturer Part Number: FRQ0805F5602TS; Supplier: LCSC; Supplier Part Number: C18222277; Resistance: 56k; Tolerance: 1%; Voltage Rating: 150V; Power: 125mW
footprint RES SMD 0805
pins: 1, 2

## RES 0805 56k 5%
designator C?, comment 56k
56kR 5% 125mW 0805 Thick Film Resistor; Manufacturer: FOJAN; Manufacturer Part Number: FRC0805J563 TS; Voltage Rating: 150V; Supplier: LCSC; Supplier Part Number: C2907336; Resistance: 56k; Tolerance: 5%; Power: 125mW
footprint RES SMD 0805
pins: 1, 2

## RES 0805 56mR 5%
designator C?, comment 56mR
56mR 5% 125mW 0805 Thick Film Resistor; Manufacturer: FOJAN; Manufacturer Part Number: FRL0805JR056TS; Voltage Rating: 300V; Supplier: LCSC; Supplier Part Number: C3000684; Resistance: 56mR; Tolerance: 5%; Power: 125mW
footprint RES SMD 0805
pins: 1, 2

## RES 0805 56R 1%
designator C?, comment 56R
56R 1% 125mW 0805 Thick Film Resistor; Manufacturer: FOJAN; Manufacturer Part Number: FRC0805F56R0TS; Voltage Rating: 150V; Supplier: LCSC; Supplier Part Number: C2930207; Resistance: 56R; Tolerance: 1%; Power: 125mW
footprint RES SMD 0805
pins: 1, 2

## RES 0805 56R 5%
designator C?, comment 56R
56R 5% 125mW 0805 Thick Film Resistor; Manufacturer: FOJAN; Manufacturer Part Number: FRC0805J560 TS; Voltage Rating: 150V; Supplier: LCSC; Supplier Part Number: C2907337; Resistance: 56R; Tolerance: 5%; Power: 125mW
footprint RES SMD 0805
pins: 1, 2

## RES 0805 57k6 1%
designator C?, comment 57k6
57.6kR 1% 125mW 0805 Thick Film Resistor; Manufacturer: FOJAN; Manufacturer Part Number: FRC0805F5762TS; Voltage Rating: 150V; Supplier: LCSC; Supplier Part Number: C5153977; Resistance: 57k6; Tolerance: 1%; Power: 125mW
footprint RES SMD 0805
pins: 1, 2

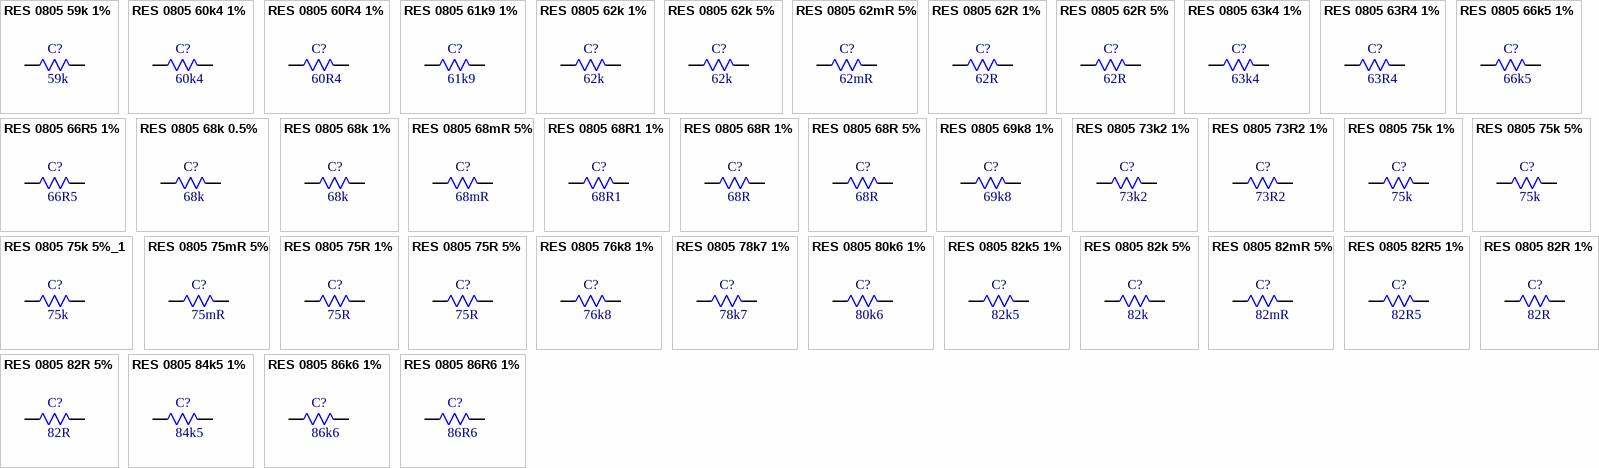
[diagram p48: symbols RES 0805 59k 1% to RES 0805 86R6 1%]

## RES 0805 59k 1%
designator C?, comment 59k
59kR 1% 125mW 0805 Thick Film Resistor; Manufacturer: FOJAN; Manufacturer Part Number: FRC0805F5902TS; Voltage Rating: 150V; Supplier: LCSC; Supplier Part Number: C2933472; Resistance: 59k; Tolerance: 1%; Power: 125mW
footprint RES SMD 0805
pins: 1, 2

## RES 0805 60k4 1%
designator C?, comment 60k4
60.4kR 1% 125mW 0805 Thick Film Resistor; Manufacturer: FOJAN; Manufacturer Part Number: FRC0805F6042TS; Voltage Rating: 150V; Supplier: LCSC; Supplier Part Number: C2933477; Resistance: 60k4; Tolerance: 1%; Power: 125mW
footprint RES SMD 0805
pins: 1, 2

## RES 0805 60R4 1%
designator C?, comment 60R4
60.4R 1% 125mW 0805 Thick Film Resistor; Manufacturer: FOJAN; Manufacturer Part Number: FRC0805F60R4TS; Voltage Rating: 150V; Supplier: LCSC; Supplier Part Number: C2933479; Resistance: 60R4; Tolerance: 1%; Power: 125mW
footprint RES SMD 0805
pins: 1, 2